# Altium integrated library STM32_Buck_Controller.IntLib: 21 symbols
Pins are listed as number, name and electrical type; pins without a type are passive.

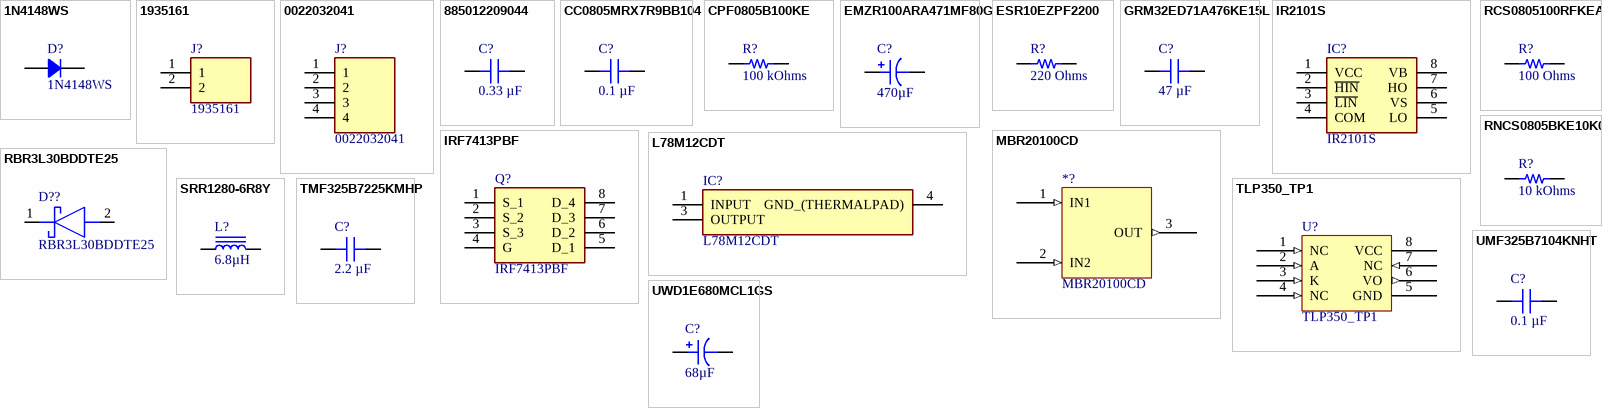
[diagram p0: symbols 1N4148WS to UWD1E680MCL1GS]

## 1N4148WS
designator D?
DIODE GEN PURP 75V 150MA SOD323F; Part Number: 1N4148WS
footprint SOD323F
pins: 1, 2

## 1935161
designator J?
Connector; Manufacturer_Name: Phoenix Contact; Datasheet Link: https://datasheet.datasheetarchive.com/originals/distributors/SFDatasheet-2/sf-00057459.pdf; Height: 11.55mm; Manufacturer_Part_Number: 1935161; Mouser Part Number: 651-1935161; Mouser Price/Stock: https://www.mouser.co.uk/ProductDetail/Phoenix-Contact/1935161?qs=W3wJikR1%252BS6eKzfFl8Rbew%3D%3D; Arrow Part Number: 1935161; Arrow Price/Stock: https://www.arrow.com/en/products/1935161/phoenix-contact?region=nac
footprint 1935161
pins: 1, 2

## 0022032041
designator J?
Connector; Manufacturer_Name: Molex; Datasheet Link: http://www.molex.com/pdm_docs/sd/022032041_sd.pdf; Height: 11.55mm; Manufacturer_Part_Number: 0022032041; Mouser Part Number: N/A; Mouser Price/Stock: https://www.mouser.co.uk/ProductDetail/Molex/0022032041?qs=PBcRNPEHKsrt5pJfEqGMHQ%3D%3D; Arrow Part Number: 0022032041; Arrow Price/Stock: https://www.arrow.com/en/products/0022032041/molex
footprint HDRV4W87P0X254_1X4_991X236X1155P
pins: 1, 2, 3, 4

## 885012209044
designator C?, comment 0.33 µF
CAP CER 0.33UF 50V X7R 1210; Part Number: 885012209044; manufacturer: Würth Elektronik; Tolerance: ±10%; Value: 0.33 µF; Applications: General Purpose; Capacitance: 0.33 µF; componentlink1description: Datasheet; componentlink1url: https://katalog.we-online.de/pbs/datasheet/885012209044.pdf; componentlink2description: DigiKey Link; componentlink2url: https://www.digikey.com/en/products/detail/würth-elektronik/885012209044/5453596; Device Package: 1210 (3225 Metric); lastupdated: 9/19/2022 01:23:29 PM; Lifecycle Status: Active; Minimum Order: 1; Mounting Type: Surface Mount, MLCC; Operating Temperature: -55°C ~ 125°C; Package / Case: 1210 (3225 Metric); packaging: TapeAndReel; partid: 25056; Part Status: Active; price: 0.36; series: WCAP-CSGP; Size / Dimension: 0.126" L x 0.098" W (3.20mm x 2.50mm); Supplier 1: DigiKey; Supplier Part Number 1: 732-7741-1-ND; Temperature Coefficient: X7R; Thickness (Max): 0.053" (1.35mm); Voltage - Rated: 50V
footprint CAP 1210_3225 - 1MM
pins: 1, 2

## CC0805MRX7R9BB104
designator C?, comment 0.1 µF
CAP CER 0.1UF 50V X7R 0805; Part Number: CC0805MRX7R9BB104; manufacturer: Yageo; Tolerance: ±20%; Value: 0.1 µF; Applications: General Purpose; Capacitance: 0.1 µF; componentlink1description: Datasheet; componentlink1url: https://www.yageo.com/upload/media/product/productsearch/datasheet/mlcc/UPY-GPHC_X7R_6.3V-to-50V_18.pdf; componentlink2description: DigiKey Link; componentlink2url: https://www.digikey.com/en/products/detail/yageo/CC0805MRX7R9BB104/5884281; Device Package: 0805 (2012 Metric); lastupdated: 9/19/2022 01:04:26 PM; Lifecycle Status: Active; Minimum Order: 1; Mounting Type: Surface Mount, MLCC; Operating Temperature: -55°C ~ 125°C; Package / Case: 0805 (2012 Metric); packaging: TapeAndReel; partid: 2475; Part Status: Active; price: 0.02; series: CC; Size / Dimension: 0.079" L x 0.049" W (2.00mm x 1.25mm); Supplier 1: DigiKey; Supplier Part Number 1: 311-4351-1-ND; Temperature Coefficient: X7R; Thickness (Max): 0.037" (0.95mm); Voltage - Rated: 50V
footprint CAP 0805_2012
pins: 1, 2

## CPF0805B100KE
designator R?, comment 100 kOhms
RES SMD 100K OHM 0.1% 1/10W 0805; Part Number: CPF0805B100KE; Manufacturer: TE Connectivity Passive Product; Power (Watts): 0.1W, 1/10W; Temperature Coefficient: ±25ppm/°C; Value: 100 kOhms; ComponentLink1Description: Datasheet; ComponentLink1URL: https://www.te.com/commerce/DocumentDelivery/DDEController?Action=srchrtrv&DocNm=1773200&DocType=DS&DocLang=English; ComponentLink2Description: DigiKey Link; ComponentLink2URL: https://www.digikey.com/en/products/detail/te-connectivity-passive-product/CPF0805B100KE/2389788; Composition: Thin Film; Device Package: 0805 (2012 Metric); Height - Seated (Max): 0.026" (0.65mm); LastUpdated: 9/19/2022 01:36:59 PM; Lifecycle Status: Active; Minimum Order: 1; Number of Terminations: 2; Operating Temperature: -55°C ~ 155°C; Package / Case: 0805 (2012 Metric); Packaging: TapeAndReel; PartId: 27729; Part Status: Active; Price: 0.10; Resistance: 100 kOhms; Series: CPF, Neohm; Size / Dimension: 0.079" L x 0.049" W (2.00mm x 1.25mm); Supplier 1: DigiKey; Supplier Part Number 1: A106042CT-ND; Supplier Device Package: 0805; Tolerance: ±0.1%
footprint RES 0805_2012
pins: 1, 2

## EMZR100ARA471MF80G
designator C?, comment 470µF
CAP ALUM 470UF 20% 10V SMD; Part Number: EMZR100ARA471MF80G; Manufacturer: United Chemi-Con; ESR (Equivalent Series Resistance): 160 mohm @ 100kHz; Lifetime @ Temp.: 2000 Hrs @ 105°C; Polarization: Polar; Ripple Current @ High Frequency: 600mA @ 100kHz; Ripple Current @ Low Frequency: 300mA @ 120Hz; Surface Mount Land Size: 0.260" L x 0.260" W (6.60mm x 6.60mm); Applications: Automotive; Capacitance: 470µF; ComponentLink1Description: Datasheet; ComponentLink1URL: http://www.chemi-con.co.jp/cgi-bin/CAT_DB/SEARCH/cat_db_al.cgi?e=e&j=p&pdfname=mzr; ComponentLink2Description: DigiKey Link; ComponentLink2URL: http://digikey.com/product-detail/en/united-chemi-con/EMZR100ARA471MF80G/565-5133-1-ND/8637128; Device Package: Radial, Can - SMD; Height - Seated (Max): 0.315" (8.00mm); LastUpdated: 1/21/2020 4:06:45 AM; Lifecycle Status: Active; Minimum Order: 1; Mounting Type: Surface Mount; Operating Temperature: -55°C ~ 105°C; Package / Case: Radial, Can - SMD; Packaging: TapeAndReel; PartId: 8433; Part Status: Active; Price: 0.20; Ratings: AEC-Q200; Series: Alchip™- MZR; Size / Dimension: 0.248" Dia (6.30mm); Supplier 1: DigiKey; Supplier Part Number 1: 565-5133-1-ND; Tolerance: ±20%; Value: 470µF; Voltage - Rated: 10V
footprint CAP ALSMD 6.6MM H8.0MM
pins: 1, 2

## ESR10EZPF2200
designator R?, comment 220 Ohms
RES SMD 220 OHM 1% 0.4W 0805; Part Number: ESR10EZPF2200; Manufacturer: Rohm Semiconductor; Power (Watts): 0.4W, 2/5W; Temperature Coefficient: ±100ppm/°C; Value: 220 Ohms; ComponentLink1Description: Datasheet; ComponentLink1URL: https://www.rohm.com/datasheet/ESR01MZPF/esr-e; ComponentLink2Description: DigiKey Link; ComponentLink2URL: https://www.digikey.com/en/products/detail/rohm-semiconductor/ESR10EZPF2200/1983511; Composition: Thick Film; Device Package: 0805 (2012 Metric); Features: Automotive AEC-Q200, Pulse Withstanding; Height - Seated (Max): 0.026" (0.65mm); LastUpdated: 9/19/2022 01:36:58 PM; Lifecycle Status: Active; Minimum Order: 1; Number of Terminations: 2; Operating Temperature: -55°C ~ 155°C; Package / Case: 0805 (2012 Metric); Packaging: TapeAndReel; PartId: 28037; Part Status: Active; Price: 0.02; Ratings: AEC-Q200; Resistance: 220 Ohms; Series: ESR; Size / Dimension: 0.079" L x 0.049" W (2.00mm x 1.25mm); Supplier 1: DigiKey; Supplier Part Number 1: RHM220AECT-ND; Supplier Device Package: 0805; Tolerance: ±1%
footprint RES 0805_2012
pins: 1, 2

## GRM32ED71A476KE15L
designator C?, comment 47 µF
CAP CER 47UF 10V X7T 1210; Part Number: GRM32ED71A476KE15L; Value: 47 µF
footprint CAP 1210_3225 - 1MM
pins: 1, 2

## IR2101S
designator IC?
Integrated Circuit; Manufacturer_Name: Infineon; Datasheet Link: https://pdf1.alldatasheet.com/datasheet-pdf/view/102221/IRF/IR2101S.html; Height: 1.75mm; Manufacturer_Part_Number: IR2101S
footprint SOIC127P600X175-8N
pins: 1 VCC, 2 ~{HIN}, 3 ~{LIN}, 4 COM, 5 LO, 6 VS, 7 HO, 8 VB

## IRF7413PBF
designator Q?
MOSFET (N-Channel); Manufacturer_Name: Infineon; Datasheet Link: https://www.infineon.com/dgdl/Infineon-IRF7413-DataSheet-v01_01-EN.pdf?fileId=5546d462533600a4015355fa8e901bb8; Height: 1.75mm; Manufacturer_Part_Number: IRF7413PBF; Mouser Part Number: 942-IRF7413PBF; Mouser Price/Stock: https://www.mouser.co.uk/ProductDetail/Infineon-IR/IRF7413PBF?qs=am%252BH1kEnjyaqXaR%2F2xDamA%3D%3D; Arrow Part Number: IRF7413PBF; Arrow Price/Stock: https://www.arrow.com/en/products/irf7413pbf/infineon-technologies-ag
footprint SOIC127P600X175-8N
pins: 1 S_1, 2 S_2, 3 S_3, 4 G, 5 D_1, 6 D_2, 7 D_3, 8 D_4

## L78M12CDT
designator IC?
Integrated Circuit; Manufacturer_Name: STMicroelectronics; Datasheet Link: http://www.st.com/st-web-ui/static/active/en/resource/technical/document/datasheet/CD00000447.pdf; Height: 2.4mm; Manufacturer_Part_Number: L78M12CDT; Mouser Part Number: 511-L78M12CDT; Mouser Price/Stock: https://www.mouser.co.uk/ProductDetail/STMicroelectronics/L78M12CDT?qs=hUhhBvpTJN9yD9OLpyEzTA%3D%3D
footprint TO228P972X240-3N
pins: 1 INPUT (power), 3 OUTPUT (power), 4 GND_(THERMALPAD) (power)

## MBR20100CD
designator *?
footprint SC_TO-252AA (D-PAK)
pins: 1 IN1 (in), 2 IN2 (in), 3 OUT (out)

## RBR3L30BDDTE25
designator D??
Schottky Diode; Manufacturer_Name: ROHM Semiconductor; Datasheet Link: https://fscdn.rohm.com/en/products/databook/datasheet/discrete/diode/schottky_barrier/rbr3l30bddte25-e.pdf; Height: 2.2mm; Manufacturer_Part_Number: RBR3L30BDDTE25; Mouser Part Number: 755-RBR3L30BDDTE25; Mouser Price/Stock: https://www.mouser.co.uk/ProductDetail/ROHM-Semiconductor/RBR3L30BDDTE25?qs=4v%252BiZTmLVHEWHyOjRRmz3Q%3D%3D
footprint DIOM5026X220N
pins: 1 K, 2 A

## RCS0805100RFKEA
designator R?, comment 100 Ohms
RES SMD 100 OHM 1% 1/2W 0805; Part Number: RCS0805100RFKEA; Manufacturer: Vishay Dale; Power (Watts): 0.5W, 1/2W; Temperature Coefficient: ±100ppm/°C; Value: 100 Ohms; ComponentLink1Description: Datasheet; ComponentLink1URL: http://www.vishay.com/docs/20065/rcse3.pdf; ComponentLink2Description: DigiKey Link; ComponentLink2URL: https://www.digikey.com/en/products/detail/vishay-dale/RCS0805100RFKEA/5866980; Composition: Thick Film; Device Package: 0805 (2012 Metric); Features: Automotive AEC-Q200, Pulse Withstanding; Height - Seated (Max): 0.020" (0.50mm); LastUpdated: 9/19/2022 01:36:59 PM; Lifecycle Status: Active; Minimum Order: 1; Number of Terminations: 2; Operating Temperature: -55°C ~ 155°C; Package / Case: 0805 (2012 Metric); Packaging: TapeAndReel; PartId: 27784; Part Status: Active; Price: 0.02; Ratings: AEC-Q200; Resistance: 100 Ohms; Series: RCS e3; Size / Dimension: 0.079" L x 0.049" W (2.00mm x 1.25mm); Supplier 1: DigiKey; Supplier Part Number 1: 541-2834-1-ND; Supplier Device Package: 0805; Tolerance: ±1%
footprint RES 0805_2012
pins: 1, 2

## RNCS0805BKE10K0
designator R?, comment 10 kOhms
RES 10K OHM 0.1% 1/10W 0805; Part Number: RNCS0805BKE10K0; Manufacturer: Stackpole Electronics Inc; Power (Watts): 0.1W, 1/10W; Temperature Coefficient: ±25ppm/°C; Value: 10 kOhms; ComponentLink1Description: Datasheet; ComponentLink1URL: https://www.seielect.com/catalog/sei-rncs_rnch.pdf; ComponentLink2Description: DigiKey Link; ComponentLink2URL: https://www.digikey.com/en/products/detail/stackpole-electronics-inc/RNCS0805BKE10K0/1800067; Composition: Thin Film; Device Package: 0805 (2012 Metric); Features: Anti-Corrosive, Automotive AEC-Q200, Moisture Resistant; Height - Seated (Max): 0.026" (0.65mm); LastUpdated: 9/19/2022 01:36:59 PM; Lifecycle Status: Active; Minimum Order: 1; Number of Terminations: 2; Operating Temperature: -55°C ~ 155°C; Package / Case: 0805 (2012 Metric); Packaging: TapeAndReel; PartId: 27713; Part Status: Active; Price: 0.09; Ratings: AEC-Q200; Resistance: 10 kOhms; Series: RNCS; Size / Dimension: 0.079" L x 0.049" W (2.00mm x 1.25mm); Supplier 1: DigiKey; Supplier Part Number 1: RNCS0805BKE10K0CT-ND; Supplier Device Package: 0805; Tolerance: ±0.1%
footprint RES 0805_2012
pins: 1, 2

## SRR1280-6R8Y
designator L?, comment 6.8µH
FIXED IND 6.8UH 7.6A 18.5MOHM SM; Part Number: SRR1280-6R8Y; Manufacturer: Bourns Inc.; Current - Saturation: 8A; DC Resistance (DCR): 18.5mOhm Max; Frequency - Self Resonant: 22MHz; Inductance Frequency - Test: 100kHz; Material - Core: Ferrite; Q @ Freq: 20 @ 7.96MHz; Shielding: Shielded; Tolerance: ±30%; Type: Wirewound; ComponentLink1Description: Datasheet; ComponentLink1URL: https://www.bourns.com/docs/Product-Datasheets/SRR1280.pdf; ComponentLink2Description: DigiKey Link; ComponentLink2URL: http://digikey.com/product-detail/en/bourns-inc/SRR1280-6R8Y/SRR1280-6R8YCT-ND/3986771; Current Rating (Amps): 7.6A; Device Package: Nonstandard; Height - Seated (Max): 0.315" (8.00mm); Inductance: 6.8µH; LastUpdated: 1/21/2020 3:25:29 AM; Lifecycle Status: Active; Minimum Order: 1; Mounting Type: Surface Mount; Operating Temperature: -40°C ~ 125°C; Package / Case: Nonstandard; Packaging: TapeAndReel; PartId: 41; Part Status: Active; Price: 0.65; Series: SRR1280; Size / Dimension: 0.492" L x 0.492" W (12.50mm x 12.50mm); Supplier 1: DigiKey; Supplier Part Number 1: SRR1280-6R8YCT-ND; Value: 6.8µH
footprint BOURNS SRR1280
pins: 1, 2

## TLP350_TP1
designator U?
footprint SOP254P1000X425-8N (SOP, 8-Leads, Body 9.66x6.40mm, Pitch 2.54mm, IPC Medium Density)
pins: 1 NC (in), 2 A (in), 3 K (in), 4 NC (in), 5 GND (power), 6 VO (out), 7 NC (in), 8 VCC (power)

## TMF325B7225KMHP
designator C?, comment 2.2 µF
CAP CER 2.2UF 25V X7R 1210; Part Number: TMF325B7225KMHP; manufacturer: Taiyo Yuden; Tolerance: ±10%; Value: 2.2 µF; Applications: Automotive, SMPS Filtering; Capacitance: 2.2 µF; componentlink1description: Datasheet; componentlink1url: https://ds.yuden.co.jp/TYCOMPAS/ut/detail?pn=TMF325B7225KMHP&u=M; componentlink2description: DigiKey Link; componentlink2url: https://www.digikey.com/en/products/detail/taiyo-yuden/TMF325B7225KMHP/10379029; Device Package: 1210 (3225 Metric); lastupdated: 9/19/2022 01:23:29 PM; Lifecycle Status: Active; Minimum Order: 1; Mounting Type: Surface Mount, MLCC; Operating Temperature: -55°C ~ 125°C; Package / Case: 1210 (3225 Metric); packaging: TapeAndReel; partid: 23880; Part Status: Active; price: 0.17; Ratings: AEC-Q200; series: M; Size / Dimension: 0.126" L x 0.098" W (3.20mm x 2.50mm); Supplier 1: DigiKey; Supplier Part Number 1: 587-6463-1-ND; Temperature Coefficient: X7R; Thickness (Max): 0.106" (2.70mm); Voltage - Rated: 25V
footprint CAP 1210_3225 - 1MM
pins: 1, 2

## UMF325B7104KNHT
designator C?, comment 0.1 µF
CAP CER 0.1UF 50V X7R 1210; Part Number: UMF325B7104KNHT; manufacturer: Taiyo Yuden; Tolerance: ±10%; Value: 0.1 µF; Applications: Automotive, SMPS Filtering; Capacitance: 0.1 µF; componentlink1description: Datasheet; componentlink1url: https://ds.yuden.co.jp/TYCOMPAS/ut/detail?pn=UMF325B7104KNHT&u=M; componentlink2description: DigiKey Link; componentlink2url: https://www.digikey.com/en/products/detail/taiyo-yuden/UMF325B7104KNHT/10379043; Device Package: 1210 (3225 Metric); lastupdated: 9/19/2022 01:23:27 PM; Lifecycle Status: Active; Minimum Order: 1; Mounting Type: Surface Mount, MLCC; Operating Temperature: -55°C ~ 125°C; Package / Case: 1210 (3225 Metric); packaging: TapeAndReel; partid: 24590; Part Status: Active; price: 0.12; Ratings: AEC-Q200; series: M; Size / Dimension: 0.126" L x 0.098" W (3.20mm x 2.50mm); Supplier 1: DigiKey; Supplier Part Number 1: 587-6477-1-ND; Temperature Coefficient: X7R; Thickness (Max): 0.083" (2.10mm); Voltage - Rated: 50V
footprint CAP 1210_3225 - 1MM
pins: 1, 2

## UWD1E680MCL1GS
designator C?, comment 68µF
CAP ALUM 68UF 20% 25V SMD; Part Number: UWD1E680MCL1GS; Manufacturer: Nichicon; Impedance: 440 mOhms; Lifetime @ Temp.: 2000 Hrs @ 105°C; Ripple Current @ High Frequency: 230mA @ 100kHz; Ripple Current @ Low Frequency: 115mA @ 120Hz; Surface Mount Land Size: 0.260" L x 0.260" W (6.60mm x 6.60mm); Applications: General Purpose; Capacitance: 68µF; ComponentLink1Description: Datasheet; ComponentLink1URL: http://nichicon-us.com/english/products/pdfs/e-uwd.pdf; ComponentLink2Description: DigiKey Link; ComponentLink2URL: http://digikey.com/product-detail/en/nichicon/UWD1E680MCL1GS/493-9673-1-ND/3963005; Device Package: Radial, Can - SMD; Height - Seated (Max): 0.228" (5.80mm); LastUpdated: 1/21/2020 2:33:32 AM; Lifecycle Status: Active; Minimum Order: 1; Mounting Type: Surface Mount; Operating Temperature: -55°C ~ 105°C; Package / Case: Radial, Can - SMD; Packaging: TapeAndReel; PartId: 8861; Part Status: Active; Price: 0.22; Series: UWD; Size / Dimension: 0.248" Dia (6.30mm); Supplier 1: DigiKey; Supplier Part Number 1: 493-9673-1-ND; Tolerance: ±20%; Value: 68µF; Voltage - Rated: 25V
footprint CAP ALSMD 6.6MM H6.1MM
pins: 1, 2